# Altium footprint library Trans_ON_Semi_MMBT5551_eec_0.PcbLib: 1 footprints
Each footprint in its own frame and in the unit in brackets; x right, y up, seen from the top. Pads: shape width x height; smd on the part's side, far side on the other; paste and mask are expansions set on the pad; w line width, h text height; cw(c..) or ccw(c..) is an arc to the next point about the centre after c.
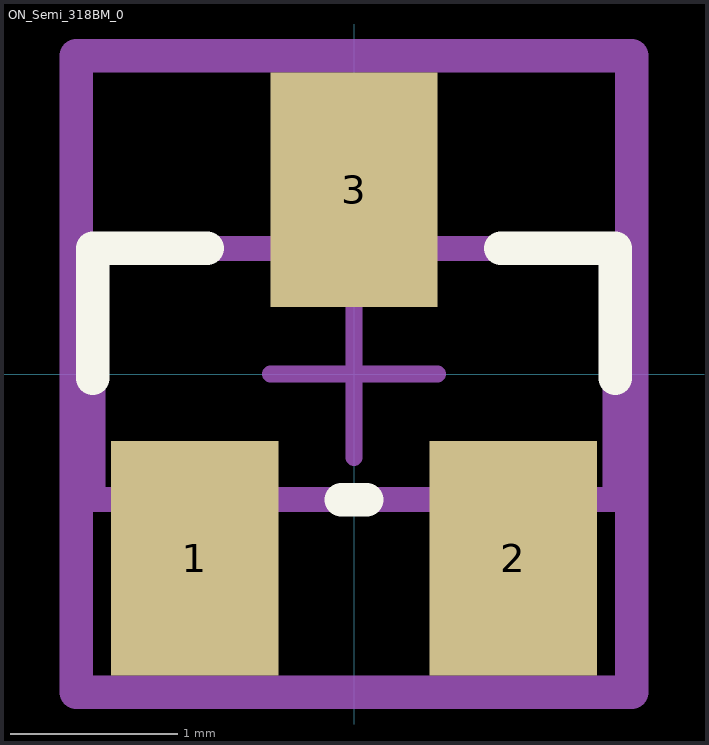
[diagram p0: the footprint, top view; thin cyan lines are the x and y axes]

## ON_Semi_318BM_0 [mm]
pads (3):
  rect 1x1.4 smd paste+0 mask+0: 1(-0.95,-1.1) 2(0.95,-1.1) 3(0,1.1)
Top Overlay:
  lines w0.2: -1.56,-0.025 -1.56,0.75 -0.875,0.75 ; -0.075,-0.75 0.075,-0.75 ; 0.875,0.75 1.56,0.75 1.56,-0.025
Mechanical 10:
  lines w0.2: -1.66,-1.9 1.66,-1.9 1.66,1.9 -1.66,1.9 -1.66,-1.9
  text ".Designator" at 0,0 h1
Mechanical 12:
  lines w0.15: -1.56,-0.75 1.56,-0.75 1.56,0.75 -1.56,0.75 -1.56,-0.75
Mechanical 15:
  lines w0.1: -0.5,0 0.5,0 ; 0,-0.5 0,0.5
  lines w0.2: -1.66,-1.9 1.66,-1.9 1.66,1.9 -1.66,1.9 -1.66,-1.9
3D body "Trans_ON_Semi_MMBT5551_eec.STEP": height 0.25, standoff 0, extent -1.66,-1.9 1.66,1.9